# Altium footprint library VFDFN-14.PcbLib: 1 footprints
Each footprint in its own frame and in the unit in brackets; x right, y up, seen from the top. Pads: shape width x height; smd on the part's side, far side on the other; paste and mask are expansions set on the pad; w line width, h text height; cw(c..) or ccw(c..) is an arc to the next point about the centre after c.
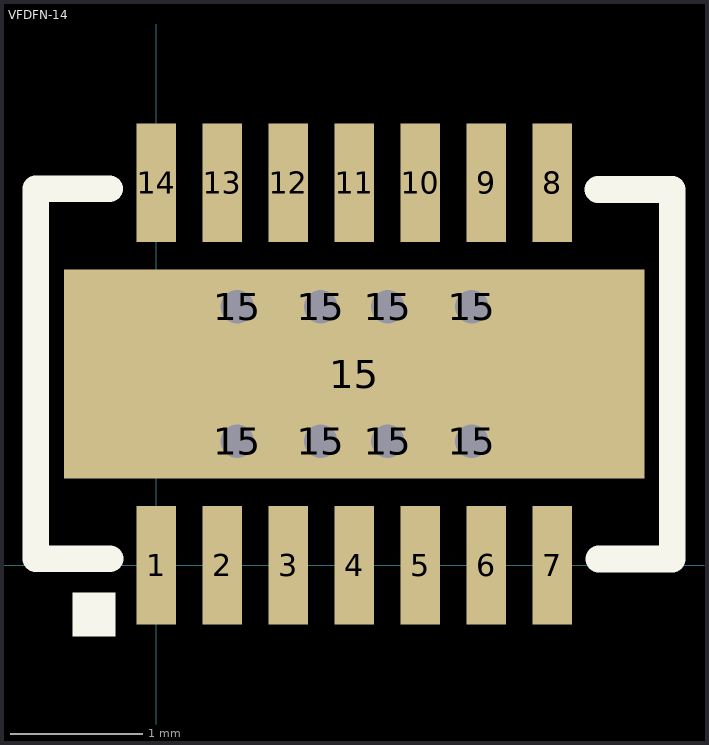
[diagram p0: the footprint, top view; thin cyan lines are the x and y axes]

## VFDFN-14 [mm]
height 1.016
pads (23):
  rect 0.3x0.898 smd: 1(0,0) 2(0.5,0) 3(1,0) 4(1.5,0) 5(2,0) 6(2.5,0) 7(3,0) 8(3,2.902) 9(2.5,2.902) 10(2,2.902) 11(1.5,2.902) 12(1,2.902) 13(0.5,2.902) 14(0,2.902)
  round 0.457 hole 0.254: 15(0.611,0.943) 15(0.611,1.959) 15(1.246,0.943) 15(1.246,1.959) 15(1.754,0.943) 15(1.754,1.959) 15(2.389,0.943) 15(2.389,1.959)
  rect 4.4x1.58 smd: 15(1.5,1.451)
TopOverlay:
  rectangle: -0.635,-0.537 -0.311,-0.203
  lines w0.203: -0.355,2.855 -0.913,2.855 -0.914,0.052 -0.351,0.051 ; 3.347,2.85 3.908,2.85 ; 3.352,0.049 3.908,0.049 3.908,2.842
3D body: height 1, standoff 0, extent -0.506,-0.132 3.503,3.018